# Altium schematic symbol library CPU_Memory.SchLib: 11 symbols
Pins are listed as number, name and electrical type; pins without a type are passive.

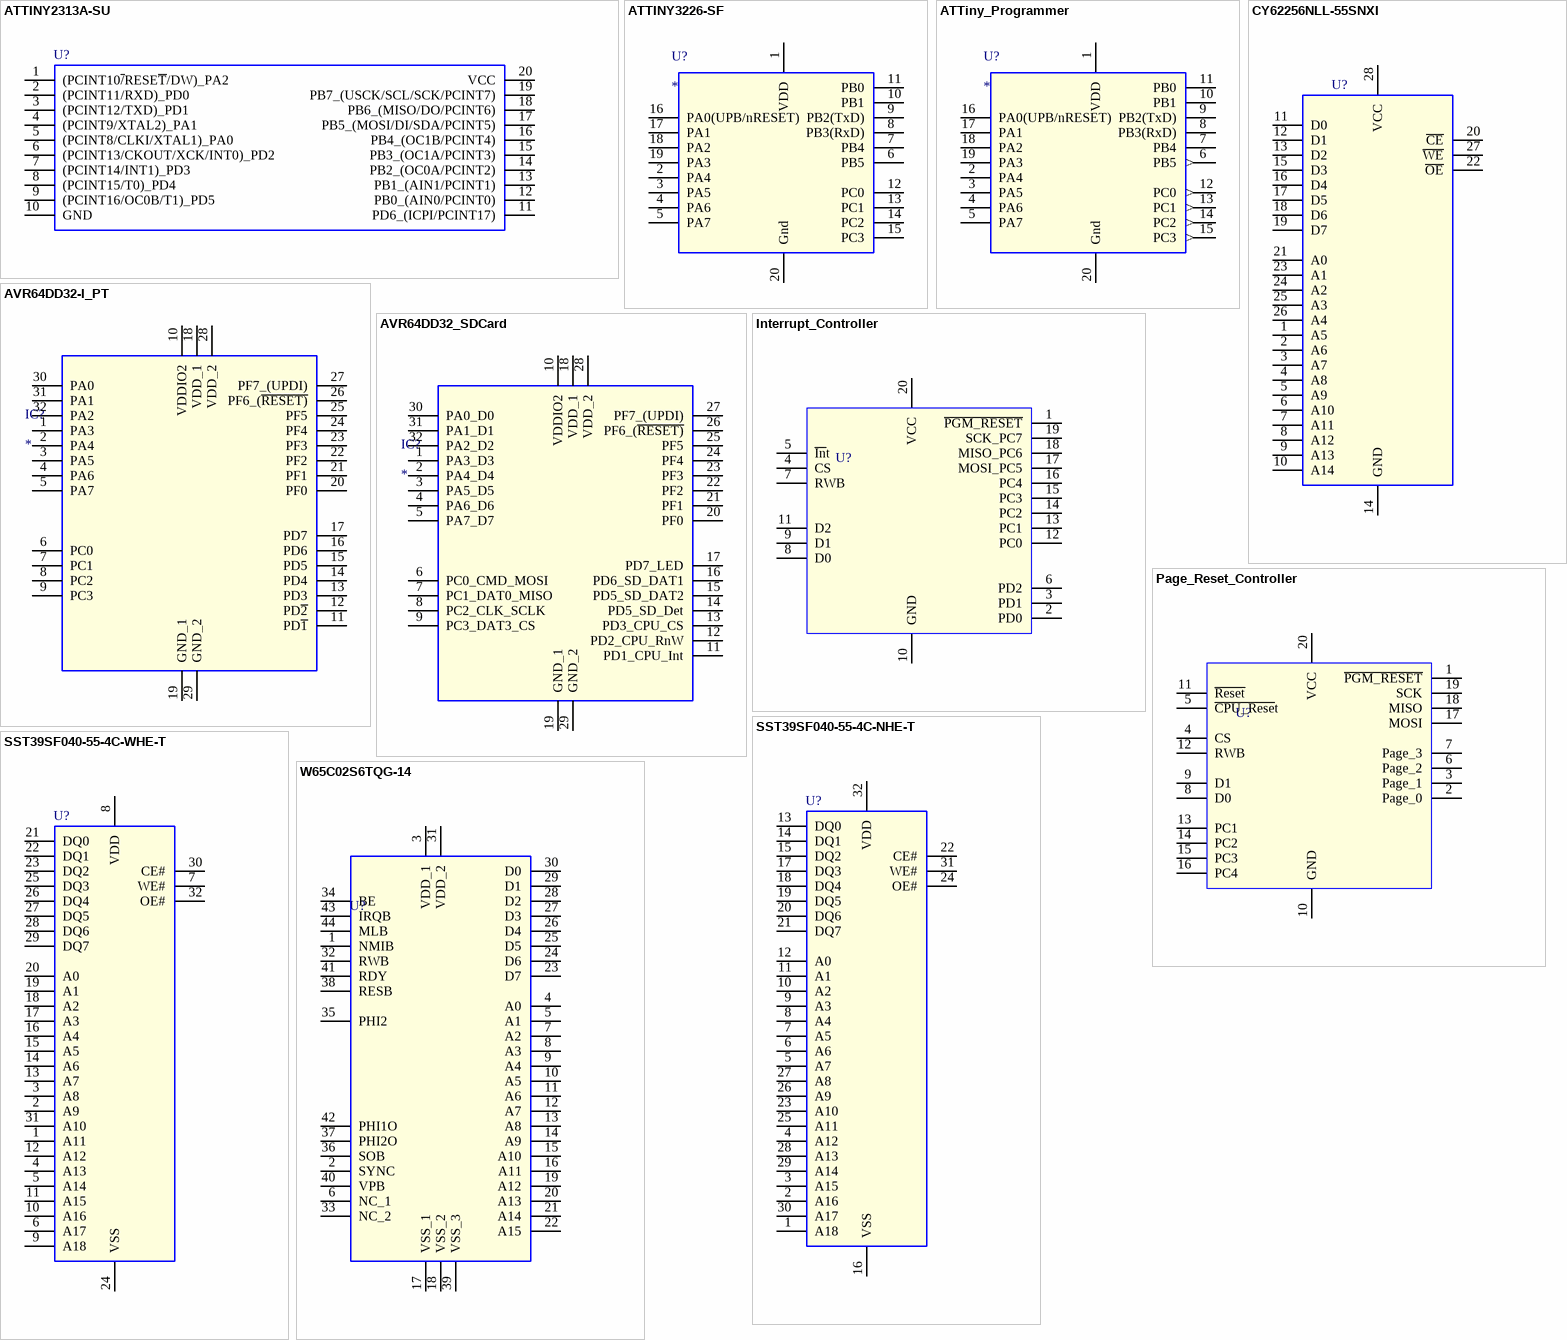
[diagram p0: symbols ATTINY2313A-SU to W65C02S6TQG-14]

## ATTINY2313A-SU
designator U?
ATTINY2313A-SU, 8 bit AVR Microcontroller 20MHz 128 B, 2 kB Flash, 128 B RAM, I2C 20-Pin SOIC; Manufacturer_Name: Microchip; Geometry.Height: 2.65mm; Mouser Part Number: 556-ATTINY2313A-SU; Mouser Price/Stock: https://www.mouser.co.uk/ProductDetail/Microchip-Technology-Atmel/ATTINY2313A-SU?qs=%2Fqzd9s%252BcLd5%252BfLbMMJ2KUA%3D%3D; Manufacturer_Part_Number: ATTINY2313A-SU; Datasheet Link: http://www.atmel.com/Images/doc8246.pdf
footprint SOIC127P1032X265-20N
pins: 1 (PCINT10~{/}RESE~{T}/DW)_PA2, 2 (PCINT11/RXD)_PD0, 3 (PCINT12/TXD)_PD1, 4 (PCINT9/XTAL2)_PA1, 5 (PCINT8/CLKI/XTAL1)_PA0, 6 (PCINT13/CKOUT/XCK/INT0)_PD2, 7 (PCINT14/INT1)_PD3, 8 (PCINT15/T0)_PD4, 9 (PCINT16/OC0B/T1)_PD5, 10 GND, 11 PD6_(ICPI/PCINT17), 12 PB0_(AIN0/PCINT0), 13 PB1_(AIN1/PCINT1), 14 PB2_(OC0A/PCINT2), 15 PB3_(OC1A/PCINT3), 16 PB4_(OC1B/PCINT4), 17 PB5_(MOSI/DI/SDA/PCINT5), 18 PB6_(MISO/DO/PCINT6), 19 PB7_(USCK/SCL/SCK/PCINT7), 20 VCC

## ATTINY3226-SF
designator U?
footprint SOIC_20N
pins: 1 VDD, 2 PA4, 3 PA5, 4 PA6, 5 PA7, 6 PB5, 7 PB4, 8 PB3(RxD), 9 PB2(TxD), 10 PB1, 11 PB0, 12 PC0, 13 PC1, 14 PC2, 15 PC3, 16 PA0(UPB/nRESET), 17 PA1, 18 PA2, 19 PA3, 20 Gnd

## ATTiny_Programmer
designator U?
ATTINY3226-SF
footprint SOIC_20N
pins: 1 VDD, 2 PA4, 3 PA5, 4 PA6, 5 PA7, 6 PB5 (out), 7 PB4, 8 PB3(RxD), 9 PB2(TxD), 10 PB1, 11 PB0, 12 PC0 (out), 13 PC1 (out), 14 PC2 (out), 15 PC3 (out), 16 PA0(UPB/nRESET), 17 PA1, 18 PA2, 19 PA3, 20 Gnd

## AVR64DD32-I_PT
designator IC?
Integrated Circuit; Manufacturer_Name: Microchip; Manufacturer_Part_Number: AVR64DD32-I/PT | MULTI-VOLTAGE I/O; Datasheet Link: https://www.microchip.com/en-us/product/AVR64DD32; Height: 1.2mm
footprint QFP80P900X900X120-32N
pins: 1 PA3, 2 PA4, 3 PA5, 4 PA6, 5 PA7, 6 PC0, 7 PC1, 8 PC2, 9 PC3, 10 VDDIO2, 11 PD~{1}, 12 PD~{2}, 13 PD3, 14 PD4, 15 PD5, 16 PD6, 17 PD7, 18 VDD_1, 19 GND_1, 20 PF0, 21 PF1, 22 PF2, 23 PF3, 24 PF4, 25 PF5, 26 PF6_(~{RESET)}, 27 PF7_(UPDI), 28 VDD_2, 29 GND_2, 30 PA0, 31 PA1, 32 PA2

## AVR64DD32_SDCard
designator IC?
Integrated Circuit; Manufacturer_Name: Microchip; Manufacturer_Part_Number: AVR64DD32-I/PT | MULTI-VOLTAGE I/O; Datasheet Link: https://www.microchip.com/en-us/product/AVR64DD32; Height: 1.2mm
footprint QFP80P900X900X120-32N
pins: 1 PA3_D3, 2 PA4_D4, 3 PA5_D5, 4 PA6_D6, 5 PA7_D7, 6 PC0_CMD_MOSI, 7 PC1_DAT0_MISO, 8 PC2_CLK_SCLK, 9 PC3_DAT3_CS, 10 VDDIO2, 11 PD1_CPU_Int, 12 PD2_CPU_RnW, 13 PD3_CPU_CS, 14 PD5_SD_Det, 15 PD5_SD_DAT2, 16 PD6_SD_DAT1, 17 PD7_LED, 18 VDD_1, 19 GND_1, 20 PF0, 21 PF1, 22 PF2, 23 PF3, 24 PF4, 25 PF5, 26 PF6_(~{RESET)}, 27 PF7_(UPDI), 28 VDD_2, 29 GND_2, 30 PA0_D0, 31 PA1_D1, 32 PA2_D2

## CY62256NLL-55SNXI
designator U?
SRAM 256K 32K x 8 4.5-5.5V 28pin 330mil SOP Industrial (-40 85 C) Low Power Asynch; Manufacturer_Name: Alliance Memory; Geometry.Height: 2.794mm; Mouser Part Number: 913-CY62256NLL55SNXI; Mouser Price/Stock: https://www.mouser.co.uk/ProductDetail/Alliance-Memory/CY62256NLL-55SNXI?qs=byeeYqUIh0Pp3ev9t84NaQ%3D%3D; Manufacturer_Part_Number: CY62256NLL-55SNXI; Datasheet Link: https://www.cypress.com/file/43841/download
footprint SOP-28
pins: 1 A5, 2 A6, 3 A7, 4 A8, 5 A9, 6 A10, 7 A11, 8 A12, 9 A13, 10 A14, 11 D0, 12 D1, 13 D2, 14 GND, 15 D3, 16 D4, 17 D5, 18 D6, 19 D7, 20 ~{CE}, 21 A0, 22 ~{OE}, 23 A1, 24 A2, 25 A3, 26 A4, 27 ~{WE}, 28 VCC

## Interrupt_Controller
designator U?, comment Int Controller
ATTINY2313A-SU, 8 bit AVR Microcontroller 20MHz 128 B, 2 kB Flash, 128 B RAM, I2C 20-Pin SOIC; Manufacturer_Name: Microchip; Geometry.Height: 2.65mm; Mouser Part Number: 556-ATTINY2313A-SU; Mouser Price/Stock: https://www.mouser.co.uk/ProductDetail/Microchip-Technology-Atmel/ATTINY2313A-SU?qs=%2Fqzd9s%252BcLd5%252BfLbMMJ2KUA%3D%3D; Manufacturer_Part_Number: ATTINY2313A-SU; Datasheet Link: http://www.atmel.com/Images/doc8246.pdf
footprint SOIC127P1032X265-20N
pins: 1 ~{PGM_RESET}, 2 PD0, 3 PD1, 4 CS, 5 ~{In}t, 6 PD2, 7 RWB, 8 D0, 9 D1, 10 GND, 11 D2, 12 PC0, 13 PC1, 14 PC2, 15 PC3, 16 PC4, 17 MOSI_PC5, 18 MISO_PC6, 19 SCK_PC7, 20 VCC

## Page_Reset_Controller
designator U?, comment Page Controller
ATTINY2313A-SU, 8 bit AVR Microcontroller 20MHz 128 B, 2 kB Flash, 128 B RAM, I2C 20-Pin SOIC; Manufacturer_Name: Microchip; Geometry.Height: 2.65mm; Mouser Part Number: 556-ATTINY2313A-SU; Mouser Price/Stock: https://www.mouser.co.uk/ProductDetail/Microchip-Technology-Atmel/ATTINY2313A-SU?qs=%2Fqzd9s%252BcLd5%252BfLbMMJ2KUA%3D%3D; Manufacturer_Part_Number: ATTINY2313A-SU; Datasheet Link: http://www.atmel.com/Images/doc8246.pdf
footprint SOIC127P1032X265-20N
pins: 1 ~{PGM_RESET}, 2 Page_0, 3 Page_1, 4 CS, 5 ~{CPU_Rese}t, 6 Page_2, 7 Page_3, 8 D0, 9 D1, 10 GND, 11 ~{Reset}, 12 RWB, 13 PC1, 14 PC2, 15 PC3, 16 PC4, 17 MOSI, 18 MISO, 19 SCK, 20 VCC

## SST39SF040-55-4C-NHE-T
designator U?
NOR Flash 4.5 to 5.5 1Mbit Multi-Purpose Flash; MicroChip Part Number: SST39SF040-55-4C-NHE-T; Supplier: Mouser; Mouser Part Number: 579-39SF040554CNHET
footprint PLCC-32
pins: 1 A18, 2 A16, 3 A15, 4 A12, 5 A7, 6 A6, 7 A5, 8 A4, 9 A3, 10 A2, 11 A1, 12 A0, 13 DQ0, 14 DQ1, 15 DQ2, 16 VSS, 17 DQ3, 18 DQ4, 19 DQ5, 20 DQ6, 21 DQ7, 22 CE#, 23 A10, 24 OE#, 25 A11, 26 A9, 27 A8, 28 A13, 29 A14, 30 A17, 31 WE#, 32 VDD

## SST39SF040-55-4C-WHE-T
designator U?
NOR Flash 4.5 to 5.5 1Mbit Multi-Purpose Flash; Manufacturer_Name: Microchip; Geometry.Height: 1.05mm; Mouser Part Number: 579-39SF040554CWHET; Mouser Price/Stock: https://www.mouser.co.uk/ProductDetail/Microchip-Technology/SST39SF040-55-4C-WHE-T?qs=uHi2%2FQoPa5BOvOWz7HmMdQ%3D%3D; Manufacturer_Part_Number: SST39SF040-55-4C-WHE-T; Datasheet Link: *
footprint TSOP-32
pins: 1 A11, 2 A9, 3 A8, 4 A13, 5 A14, 6 A17, 7 WE#, 8 VDD, 9 A18, 10 A16, 11 A15, 12 A12, 13 A7, 14 A6, 15 A5, 16 A4, 17 A3, 18 A2, 19 A1, 20 A0, 21 DQ0, 22 DQ1, 23 DQ2, 24 VSS, 25 DQ3, 26 DQ4, 27 DQ5, 28 DQ6, 29 DQ7, 30 CE#, 31 A10, 32 OE#

## W65C02S6TQG-14
designator U?
Microprocessors - MPU 8-bit Microprocessor; Manufacturer_Name: Western Design Center (WDC); Geometry.Height: 2.7mm; Mouser Part Number: 955-W65C02S6TQG-14; Mouser Price/Stock: https://www.mouser.co.uk/ProductDetail/Western-Design-Center-WDC/W65C02S6TQG-14?qs=opBjA1TV900Cx5CoX8hQeQ%3D%3D; Manufacturer_Part_Number: W65C02S6TQG-14; Datasheet Link: http://www.westerndesigncenter.com/wdc/documentation/w65c02s.pdf
footprint QFP-44
pins: 1 NMIB, 2 SYNC, 3 VDD_1, 4 A0, 5 A1, 6 NC_1, 7 A2, 8 A3, 9 A4, 10 A5, 11 A6, 12 A7, 13 A8, 14 A9, 15 A10, 16 A11, 17 VSS_1, 18 VSS_2, 19 A12, 20 A13, 21 A14, 22 A15, 23 D7, 24 D6, 25 D5, 26 D4, 27 D3, 28 D2, 29 D1, 30 D0, 31 VDD_2, 32 RWB, 33 NC_2, 34 BE, 35 PHI2, 36 SOB, 37 PHI2O, 38 RESB, 39 VSS_3, 40 VPB, 41 RDY, 42 PHI1O, 43 IRQB, 44 MLB